# Altium integrated library NEC Peripheral Hard Disk Controller.IntLib: 1 symbol
Pins are listed as number, name and electrical type; pins without a type are passive.

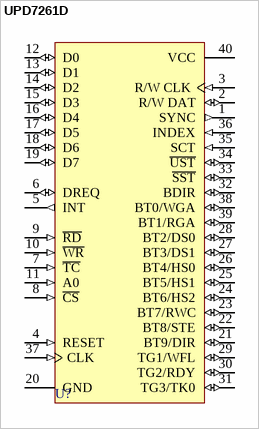
[diagram p0: symbol UPD7261D]

## UPD7261D
designator U?
Hard-Disk Controller; Published: 8-Jun-2000; LatestRevisionDate: 17-Jul-2002; LatestRevisionNote: Re-released for DXP Platform.; DatasheetVersion: 1984; PackageVersion: 1984; PackageReference: CDIP40D; Publisher: Altium Limited; PackageDescription: DIP; 40 Leads; Row Spacing 15.24 mm; Pitch 2.54 mm; ComponentLink1Description: Manufacturer Link; ComponentLink1URL: http://www.necel.com/
footprint CDIP40D (DIP; 40 Leads; Row Spacing 15.24 mm; Pitch 2.54 mm)
pins: 1 SYNC (out), 2 R/W DAT (io), 3 R/W CLK (in), 4 RESET (in), 5 INT (out), 6 DREQ (io), 7 ~{TC} (in), 8 ~{CS} (in), 9 ~{RD} (in), 10 ~{WR} (in), 11 A0 (in), 12 D0 (io), 13 D1 (io), 14 D2 (io), 15 D3 (io), 16 D4 (io), 17 D5 (io), 18 D6 (io), 19 D7 (io), 20 GND (power), 21 BT9/DIR (io), 22 BT8/STE (io), 23 BT7/RWC (io), 24 BT6/HS2 (io), 25 BT5/HS1 (io), 26 BT4/HS0 (io), 27 BT3/DS1 (io), 28 BT2/DS0 (io), 29 TG1/WFL (io), 30 TG2/RDY (io), 31 TG3/TK0 (io), 32 BDIR (io), 33 ~{SST} (io), 34 ~{UST} (io), 35 SCT (in), 36 INDEX (in), 37 CLK (in), 38 BT0/WGA (io), 39 BT1/RGA (io), 40 VCC (power)